# Altium footprint library WCAP-CSGP.PcbLib: 19 footprints (part 2 of 2)
Each footprint in its own frame and in the unit in brackets; x right, y up, seen from the top. Pads: shape width x height; smd on the part's side, far side on the other; paste and mask are expansions set on the pad; w line width, h text height; cw(c..) or ccw(c..) is an arc to the next point about the centre after c.
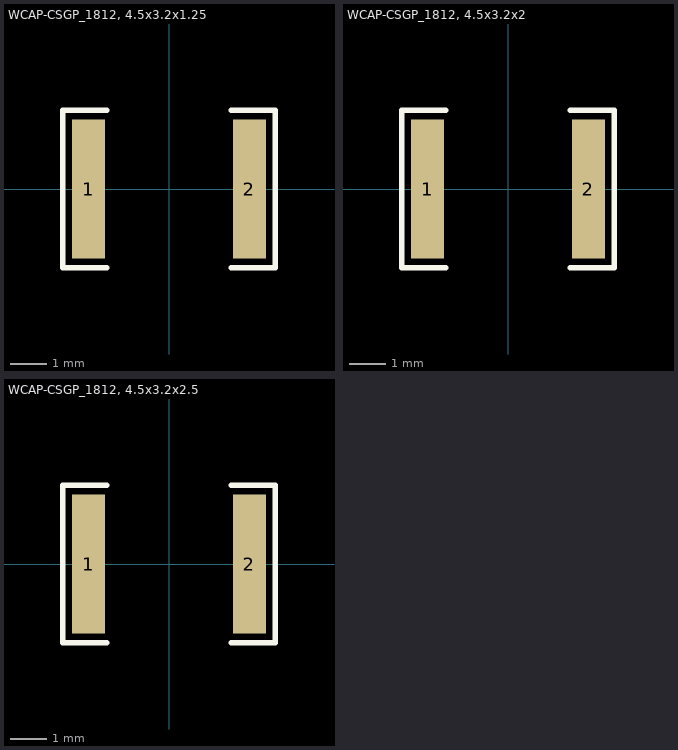
[diagram p1: the footprints below, top view; thin cyan lines are the x and y axes]

## WCAP-CSGP_1812, 4.5x3.2x1.25 [mm] "WCAP-CSGP Ceramic Capacitors, size 1812, body 4.5x3.2x1.25"
height 1.25
pads (2):
  rect 0.9x3.8 smd: 1(-2.2,0) 2(2.2,0)
Top Overlay:
  lines w0.15: -1.7,-2.15 -2.9,-2.15 -2.9,2.15 -1.7,2.15 ; 1.7,-2.15 2.9,-2.15 2.9,2.15 1.7,2.15
3D body: height 1.28, standoff 0.03, extent -2.225,-1.6 2.275,1.6

## WCAP-CSGP_1812, 4.5x3.2x2 [mm] "WCAP-CSGP Ceramic Capacitors, size 1812, body 4.5x3.2x2"
height 2
pads (2):
  rect 0.9x3.8 smd: 1(-2.2,0) 2(2.2,0)
Top Overlay:
  lines w0.15: -1.7,-2.15 -2.9,-2.15 -2.9,2.15 -1.7,2.15 ; 1.7,-2.15 2.9,-2.15 2.9,2.15 1.7,2.15
3D body: height 2, standoff 0, extent -2.25,-1.6 2.25,1.6

## WCAP-CSGP_1812, 4.5x3.2x2.5 [mm] "WCAP-CSGP Ceramic Capacitors, size 1812, body 4.5x3.2x2.5"
height 2.5
pads (2):
  rect 0.9x3.8 smd: 1(-2.2,0) 2(2.2,0)
Top Overlay:
  lines w0.15: -1.7,-2.15 -2.9,-2.15 -2.9,2.15 -1.7,2.15 ; 1.7,-2.15 2.9,-2.15 2.9,2.15 1.7,2.15
3D body: height 2.5, standoff 0, extent -2.2,-1.6 2.3,1.6